# Altium footprint library vesta.PcbLib: 7 footprints
Each footprint in its own frame and in the unit in brackets; x right, y up, seen from the top. Pads: shape width x height; smd on the part's side, far side on the other; paste and mask are expansions set on the pad; w line width, h text height; cw(c..) or ccw(c..) is an arc to the next point about the centre after c.
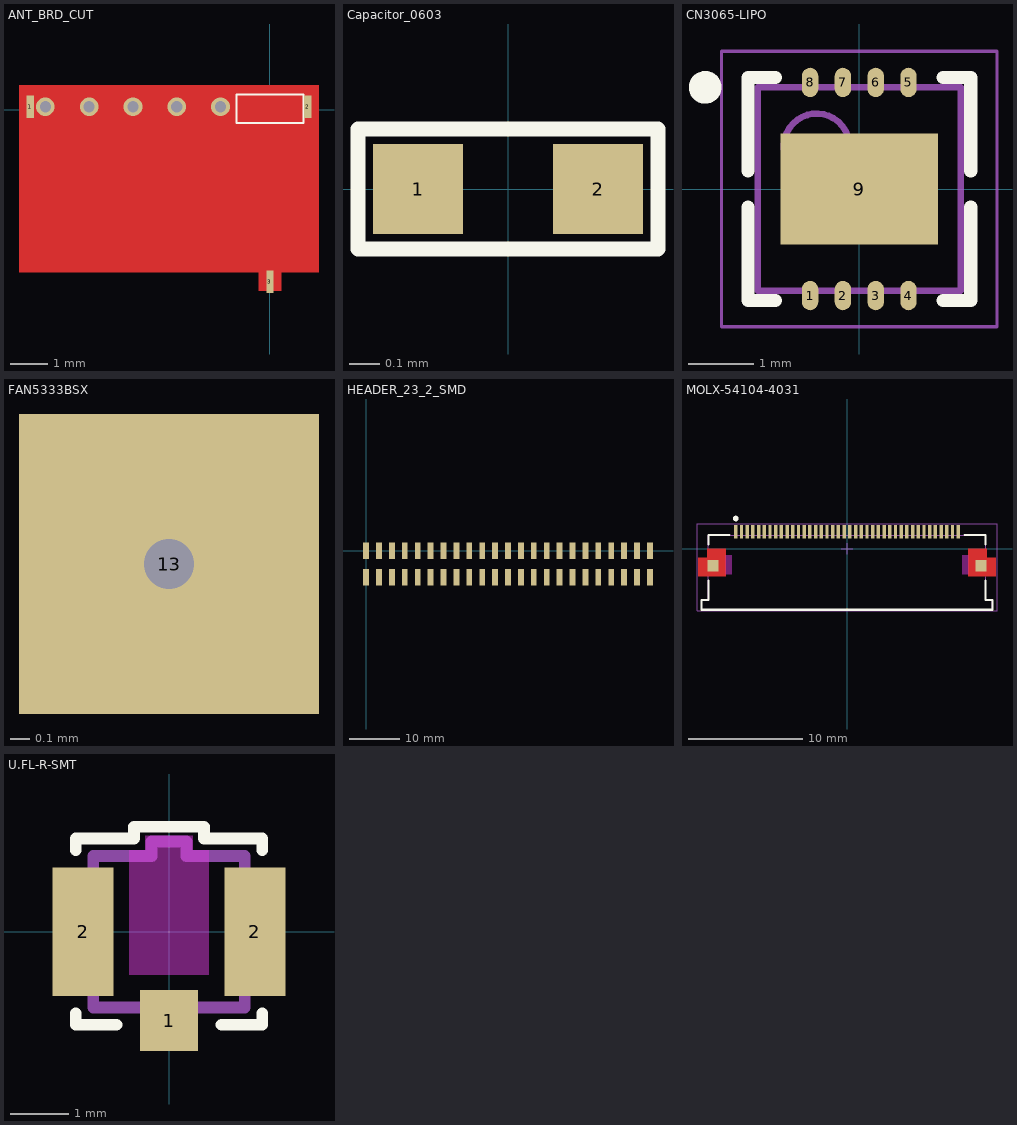
[diagram p0: the footprints below, top view; thin cyan lines are the x and y axes]

## ANT_BRD_CUT [mm]
pads (3):
  rect 0.2x0.6 smd: 1(-6.41,0.075) 2(1.01,0.075) 3(0,-4.6)
via -6.005,0.075 diameter 0.5 hole 0.3
via -4.835,0.075 diameter 0.5 hole 0.3
via -3.665,0.075 diameter 0.5 hole 0.3
via -2.495,0.075 diameter 0.5 hole 0.3
via -1.325,0.075 diameter 0.5 hole 0.3
Component Side:
  pour cut-out: -6.7,0.65 1.3,0.65 1.3,-4.35 -6.7,-4.35
  region: -6.56,0.4 -6.56,-0.25 -0.9,-0.25 -0.9,-0.364 -0.45,-0.364 -0.45,0.4
  region: -0.3,0.364 0.3,0.364 0.3,0.105 -0.3,0.105
  region: 0.45,-0.364 0.9,-0.364 0.9,-0.25 1.16,-0.25 1.16,0.4 0.45,0.4
  region: -0.3,-0.105 0.3,-0.105 0.3,-0.791 0.3,-4.85 -0.3,-4.85
Solder Side:
  region: -6.56,0.4 -0.9,0.4 -0.9,-0.25 -6.56,-0.25
Top Overlay:
  lines w0.05: -0.9,-0.364 -0.9,0.4 0.9,0.4 0.9,-0.364 -0.9,-0.364
Ground Plane:
  pour cut-out: -6.7,0.65 -6.7,-4.35 1.3,-4.35 1.3,0.65
Power Plane:
  pour cut-out: -6.7,0.65 1.3,0.65 1.3,-4.35 -6.7,-4.35

## Capacitor_0603 [mm]
pads (2):
  rect 0.3x0.3 smd: 1(-0.3,0) 2(0.3,0)
Top Overlay:
  lines w0.05: -0.5,-0.2 0.5,-0.2 0.5,0.2 -0.5,0.2 -0.5,0 -0.5,-0.2

## CN3065-LIPO [mm] "QFN, 8-Leads, Body 3,00x3,00mm, Pitch 0,50mm, Thermal Pad 2,40x1,70mm, IPC Medium Density"
height 0.9
pads (9):
  oval 0.25x0.45 smd: 1(-0.75,-1.625) 2(-0.25,-1.625) 3(0.25,-1.625) 4(0.75,-1.625) 5(0.75,1.625) 6(0.25,1.625) 7(-0.25,1.625) 8(-0.75,1.625)
  rect 2.4x1.7 smd: 9(0,0)
Top Overlay:
  circle w0.25: c-2.35,1.55 r0.125
  lines w0.2: -1.7,-0.275 -1.7,-1.7 -1.275,-1.7 ; -1.7,0.275 -1.7,1.7 -1.275,1.7 ; 1.275,-1.7 1.7,-1.7 1.7,-0.275 ; 1.275,1.7 1.7,1.7 1.7,0.275
Mechanical 13:
  circle w0.1: c-0.65,0.65 r0.5
  lines w0.1: -1.55,-1.55 1.55,-1.55 1.55,1.55 -1.55,1.55 -1.55,-1.55
Mechanical 15:
  lines w0.05: -2.1,-2.1 2.1,-2.1 2.1,2.1 -2.1,2.1 -2.1,-2.1
  lines w0.1: -0.5,0 0.5,0 ; 0,-0.5 0,0.5
3D body: height 0.9, standoff 0, extent -1.55,-1.55 1.55,1.55

## FAN5333BSX [mil]
pads (1):
  rect 60x60 hole 10: 13(-49874.02,-49862.2)

## HEADER_23_2_SMD [mm]
pads (48):
  rect 1.14x3.175 smd: 1(0,0) 2(0,-5.205) 3(2.54,0) 4(2.54,-5.205) 5(5.08,0) 6(5.08,-5.205) 7(7.62,0) 8(7.62,-5.205) 9(10.16,0) 10(10.16,-5.205) 11(12.7,0) 12(12.7,-5.205) 13(15.24,0) 14(15.24,-5.205) 15(17.78,0) 16(17.78,-5.205) 17(20.32,0) 18(20.32,-5.205) 19(22.86,0) 20(22.86,-5.205) 21(25.4,0) 22(25.4,-5.205) 22(25.4,-5.205) 23(27.94,0) 23(27.94,0) 24(27.94,-5.205) 25(30.48,0) 26(30.48,-5.205) 27(33.02,0) 28(33.02,-5.205) 29(35.56,0) 30(35.56,-5.205) 31(38.1,0) 32(38.1,-5.205) 33(40.64,0) 34(40.64,-5.205) 35(43.18,0) 36(43.18,-5.205) 37(45.72,0) 38(45.72,-5.205) 39(48.26,0) 40(48.26,-5.205) 41(50.8,0) 42(50.8,-5.205) 43(53.34,0) 44(53.34,-5.205) 45(55.88,0) 46(55.88,-5.205)
3D body: height 14.47, standoff 0, extent -1.1,-6.285 57.129,1.081

## MOLX-54104-4031 [mm] "FPC Connector, 40-Leads, Right Angle, Pitch 0.5 mm, Mated Height 2.0 mm, SMT"
height 2.062
pads (42):
  rect 0.3x1.2 smd: 1(-9.75,1.5) 2(-9.25,1.5) 3(-8.75,1.5) 4(-8.25,1.5) 5(-7.75,1.5) 6(-7.25,1.5) 7(-6.75,1.5) 8(-6.25,1.5) 9(-5.75,1.5) 10(-5.25,1.5) 11(-4.75,1.5) 12(-4.25,1.5) 13(-3.75,1.5) 14(-3.25,1.5) 15(-2.75,1.5) 16(-2.25,1.5) 17(-1.75,1.5) 18(-1.25,1.5) 19(-0.75,1.5) 20(-0.25,1.5) 21(0.25,1.5) 22(0.75,1.5) 23(1.25,1.5) 24(1.75,1.5) 25(2.25,1.5) 26(2.75,1.5) 27(3.25,1.5) 28(3.75,1.5) 29(4.25,1.5) 30(4.75,1.5) 31(5.25,1.5) 32(5.75,1.5) 33(6.25,1.5) 34(6.75,1.5) 35(7.25,1.5) 36(7.75,1.5) 37(8.25,1.5) 38(8.75,1.5) 39(9.25,1.5) 40(9.75,1.5)
  rect 1x1 smd: MP1(-11.75,-1.5) MP2(11.75,-1.5)
Component Side:
  region: -10.65,0 -12.25,0 -12.25,-0.8 -13.05,-0.8 -13.05,-2.4 -10.65,-2.4
  region: 10.65,0 12.25,0 12.25,-0.8 13.05,-0.8 13.05,-2.4 10.65,-2.4
Top Overlay:
  circle w0.25: c-9.75,2.65 r0.125
  lines w0.2: -12.75,-5.35 12.75,-5.35 12.75,-4.5 12.15,-4.5 12.15,-2.8 ; -12.75,-5.35 -12.75,-4.5 -12.15,-4.5 -12.15,-2.8 ; -12.15,0.4 -12.15,1.2 -10.3,1.2 ; 10.3,1.2 12.15,1.2 12.15,0.4
Keep-Out Layer:
  region: -10.1,-0.55 -10.65,-0.55 -10.65,-2.25 -10.1,-2.25
  region: 10.65,-0.55 10.1,-0.55 10.1,-2.25 10.65,-2.25
Mechanical 13:
  lines w0.1: -12.75,-5.35 12.75,-5.35 12.75,-4.5 12.15,-4.5 12.15,1.2 -12.15,1.2 -12.15,-4.5 -12.75,-4.5 -12.75,-5.35
Mechanical 15:
  lines w0.05: -13.15,-5.45 -13.15,2.2 13.15,2.2 13.15,-5.45 -13.15,-5.45
  lines w0.1: -0.5,0 0.5,0 ; 0,-0.5 0,0.5
3D body: height 2.06, standoff 0.01, extent -12.75,-5.35 12.75,1.8

## U.FL-R-SMT [mm]
pads (3):
  rect 1x1.05 smd: 1(0,-1.525)
  rect 1.05x2.2 smd: 2(-1.475,0) 2(1.475,0)
Component Side keep-out:
  region: -0.686,-0.737 0.686,-0.737 0.686,1.397 0.406,1.397 0.406,1.651 -0.406,1.651 -0.406,1.397 -0.686,1.397
Top Overlay:
  lines w0.2: -1.6,-1.4 -1.6,-1.6 -0.9,-1.6 ; -1.6,1.4 -1.6,1.6 -0.6,1.6 -0.6,1.8 0.6,1.8 0.6,1.6 1.6,1.6 1.6,1.4 ; 0.9,-1.6 1.6,-1.6 1.6,-1.4
Mechanical 3:
  lines w0.2: -1.311,-0.9 -1.5,-0.9 -1.5,0.9 -1.311,0.9 ; -1.3,-0.9 -1.3,-1.3 -0.33,-1.3 ; -1.3,0.9 -1.3,1.3 -0.3,1.3 -0.3,1.55 0.3,1.55 0.3,1.3 1.3,1.3 1.3,0.9 ; -0.3,-1.3 -0.3,-1.55 0.3,-1.55 0.3,-1.3 ; 0.33,-1.3 1.3,-1.3 1.3,-0.9 ; 1.311,-0.9 1.5,-0.9 1.5,0.9 1.311,0.9
3D body: height 0.35, standoff 0, extent -1.5,-1.55 1.5,1.55
3D body: height 1.25, standoff 0, extent -0.992,-0.998 1,0.998